# Altium footprint library HB_Driver.PcbLib: 1 footprints
Each footprint in its own frame and in the unit in brackets; x right, y up, seen from the top. Pads: shape width x height; smd on the part's side, far side on the other; paste and mask are expansions set on the pad; w line width, h text height; cw(c..) or ccw(c..) is an arc to the next point about the centre after c.
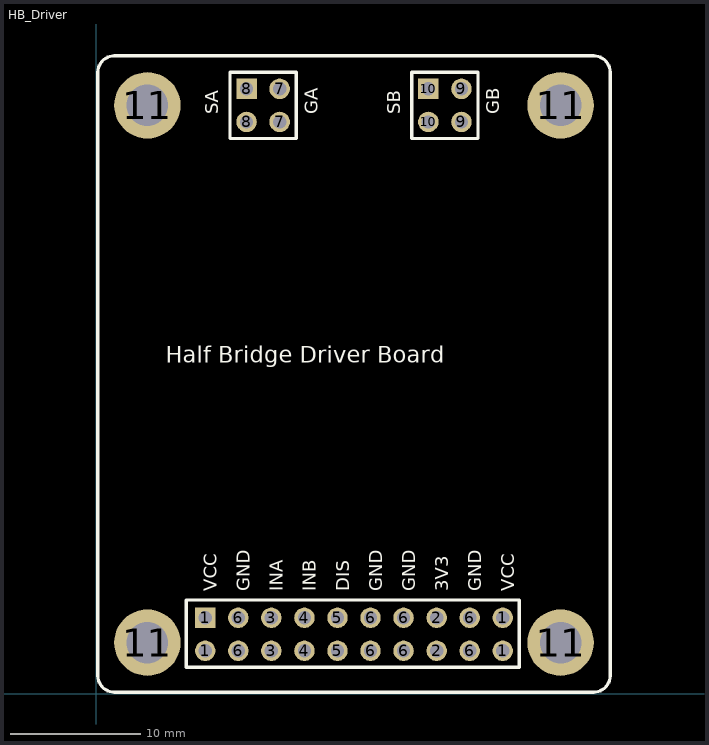
[diagram p0: the footprint, top view; thin cyan lines are the x and y axes]

## HB_Driver [mm]
pads (32):
  round 1.57 hole 1.02 paste-2539.97 mask+0: 1(8.382,3.302) 1(31.242,3.302) 1(31.242,5.842) 2(26.162,3.302) 2(26.162,5.842) 3(13.462,3.302) 3(13.462,5.842) 4(16.002,3.302) 4(16.002,5.842) 5(18.542,3.302) 5(18.542,5.842) 6(10.922,3.302) 6(10.922,5.842) 6(21.082,3.302) 6(21.082,5.842) 6(23.622,3.302) 6(23.622,5.842) 6(28.702,3.302) 6(28.702,5.842) 7(14.097,43.942) 7(14.097,46.482) 8(11.557,43.942) 9(28.067,43.942) 9(28.067,46.482) 10(25.527,43.942)
  rect 1.57x1.57 hole 1.02 paste-2539.97 mask+0: 1(8.382,5.842) 8(11.557,46.482) 10(25.527,46.482)
  round 5.099 hole 3.2 paste-2539.97 mask+0: 11(3.937,3.937) 11(3.937,45.212) 11(35.687,3.937) 11(35.687,45.212)
Top Overlay:
  lines w0.254: 6.934,2.032 32.512,2.032 ; 6.934,2.032 6.934,7.214 ; 6.934,2.032 32.512,2.032 ; 6.934,2.032 6.934,7.214 ; 6.934,7.214 32.512,7.214 ; 6.934,7.214 32.512,7.214 ; 10.287,42.672 15.367,42.672 ; 10.287,42.672 10.287,47.752 ; 10.287,42.672 15.367,42.672 ; 10.287,42.672 10.287,47.752 ; 10.287,47.752 15.367,47.752 ; 10.287,47.752 15.367,47.752 ; 15.367,42.672 15.367,47.752 ; 15.367,42.672 15.367,47.752 ; 24.257,42.672 29.337,42.672 ; 24.257,42.672 24.257,47.752 ; 24.257,42.672 29.337,42.672 ; 24.257,42.672 24.257,47.752 ; 24.257,47.752 29.337,47.752 ; 24.257,47.752 29.337,47.752 ; 29.337,42.672 29.337,47.752 ; 29.337,42.672 29.337,47.752 ; 32.512,2.032 32.512,7.214 ; 32.512,2.032 32.512,7.214 ; 0.127,1.397 ccw(c1.397,1.397) 1.397,0.127 38.227,0.127 ccw(c38.227,1.397) 39.497,1.397 39.497,47.752 ccw(c38.227,47.752) 38.227,49.022 1.397,49.022 ccw(c1.397,47.752) 0.127,47.752 0.127,1.397
  text "GND" at 29.591,7.874 h1.02
  text "3V3" at 27.051,7.874 h1.02
  text "VCC" at 32.131,7.874 h1.02
  text "GND" at 24.511,7.874 h1.02
  text "GND" at 21.971,7.874 h1.02
  text "INA" at 14.351,7.874 h1.02
  text "VCC" at 9.271,7.874 h1.02
  text "DIS" at 19.431,7.874 h1.02
  text "GND" at 11.811,7.874 h1.02
  text "INB" at 16.891,7.874 h1.02
  text "GA" at 17.018,44.535 h1.02
  text "GB" at 30.988,44.535 h1.02
  text "SA" at 9.398,44.535 h1.02
  text "Half Bridge Driver Board" at 5.334,25.442 h1.27
  text "SB" at 23.368,44.535 h1.02
3D body "HalfBridgeDriverBoard.step": height 16.31, standoff -7.86, extent 0.127,0.127 39.497,49.022